# Altium integrated library Texas Instruments Power Management PWM Controller.IntLib: 1227 symbols (part 28 of 49)
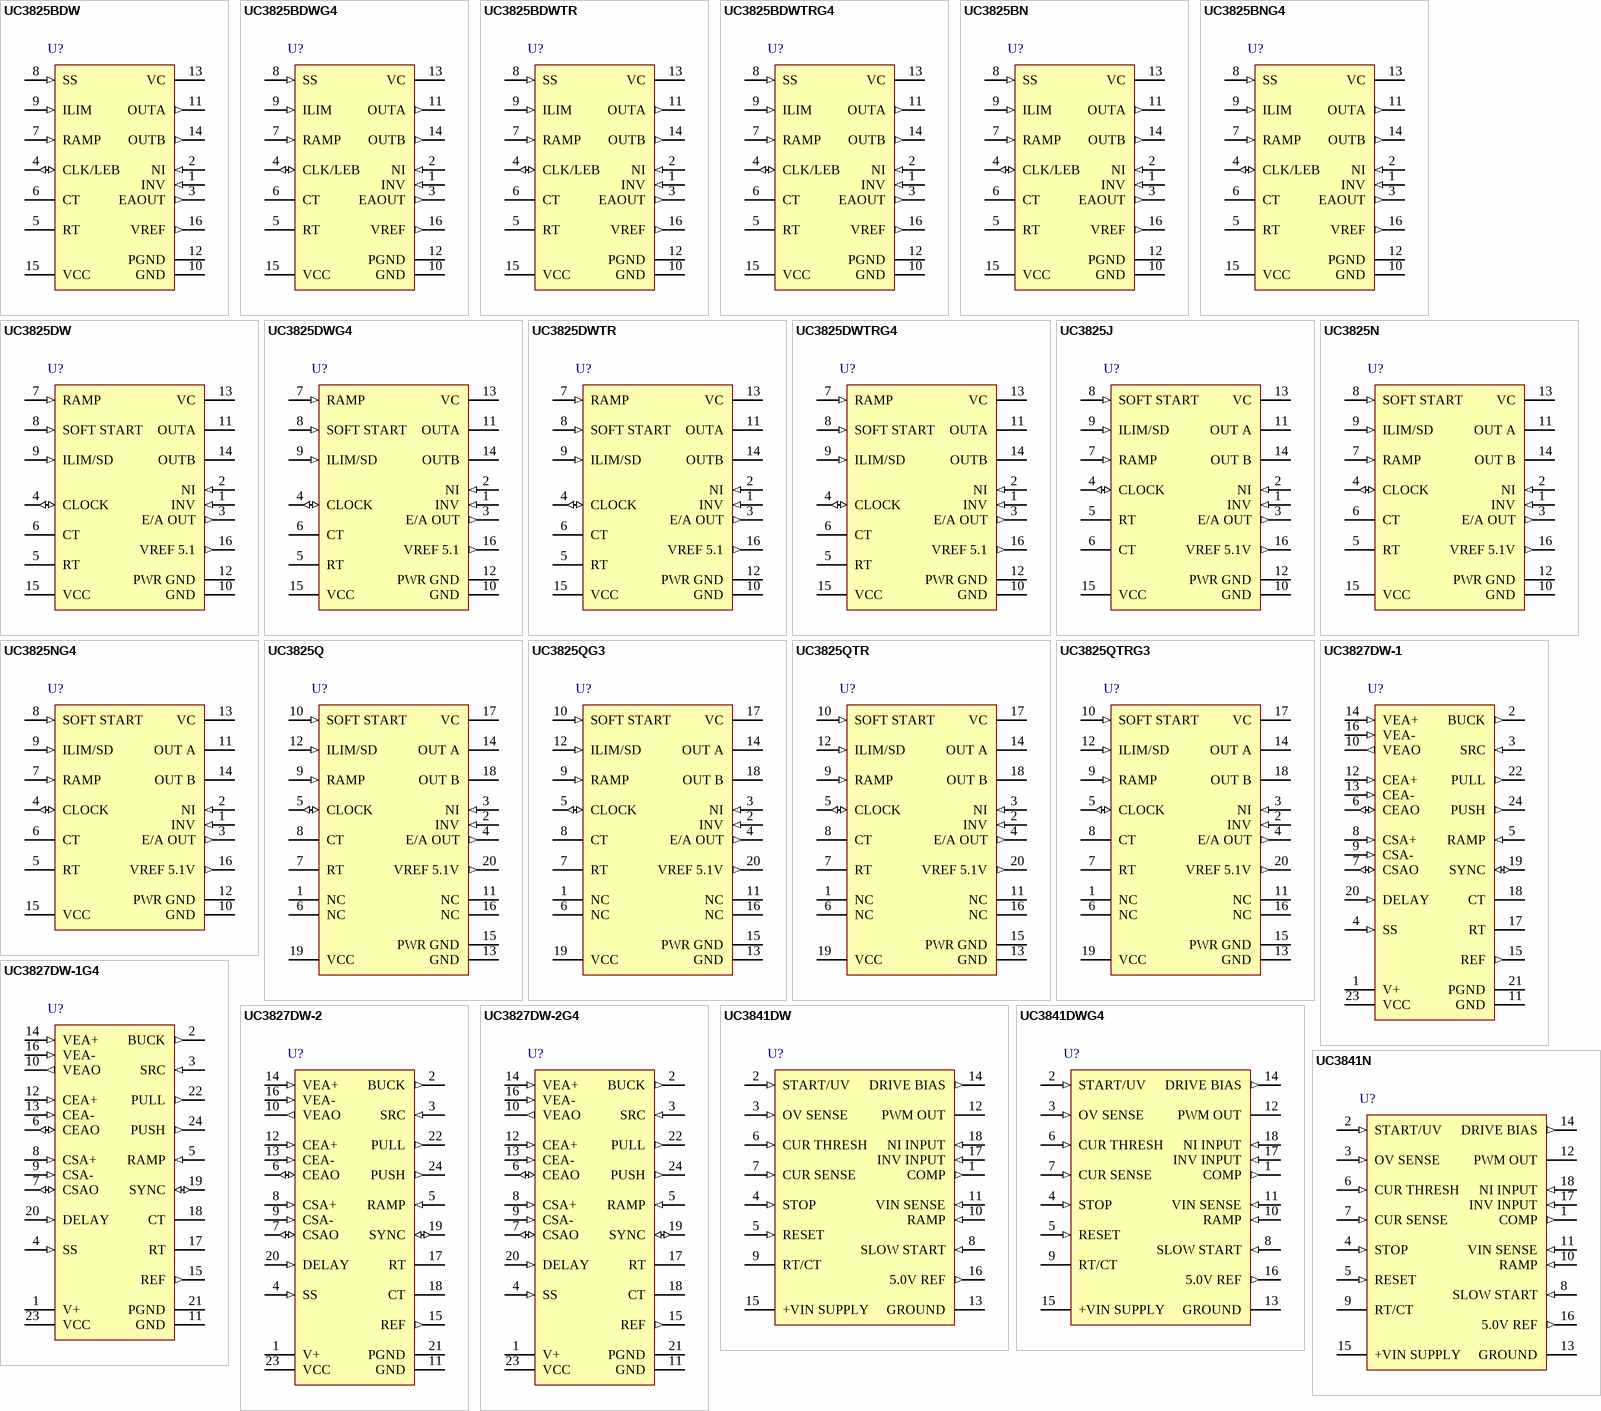
[diagram p70: symbols UC3825BDW to UC3841N]

## UC3825BDW
designator U?
High-Speed PWM Controller with Current, Voltage Control, 50 % Duty Cycle, 0 to +70 degC, 16-pin SOIC (DW), Green (RoHS & no Sb/Br); PartNumber: UC3825BDW; Manufacturer: Texas Instruments; Duty Cycle(Max)(%): 50; Frequency(Max)(kHz): 1000; Rating: Catalog; Regulated Outputs(#): 2; Topology: Boost, Buck, Flyback, Forward, Full-Bridge, Half-Bridge, Push-Pull; UVLO Thresholds On/Off(V): 9.2/8.4; DatasheetVersion: SLUS334E; PackageVersion: revG, Jan-2011; PackageReference: DW16; PackageDescription: 16-Pin Small Outline Integrated Circuit, 10.3 x 7.5 mm, Pitch 1.27 mm Pitch; Supplier 1: Digi-Key; Supplier Part Number 1: 296-2518-5-ND; Supplier 2: Farnell; Supplier Part Number 2: 1461261; Supplier 3: Newark; Supplier Part Number 3: 77C3251; Supplier 4: Mouser; Supplier Part Number 4: 595-UC3825BDW; Control Method: Current, Voltage; Eco-Plan: Green (RoHS & no Sb/Br); SubFamily: PWM Controller; Mounting Technology: Surface Mount; Code_JEDEC: MS-013-AA; ComponentLink1Description: Datasheet; ComponentLink1URL: http://www.ti.com/general/docs/lit/getliterature.tsp?genericPartNumber=UC3825B&fileType=pdf
footprint DW16_N (SOIC, 16-Leads, Body 10.3x7.5mm, Pitch 1.27mm, IPC Medium Density)
footprint DW16_L (SOIC, 16-Leads, Body 10.3x7.5mm, Pitch 1.27mm, IPC High Density)
footprint DW16_M (SOIC, 16-Leads, Body 10.3x7.5mm, Pitch 1.27mm, IPC Low Density)
pins: 1 INV (in) "Inverting input to the error amplifier", 2 NI (in) "Non-inverting input to the error amplifier", 3 EAOUT (out) "Output of the error amplifier for compensation", 4 CLK/LEB (io) "Output of the internal oscillator", 5 RT "Timing resistor connection pin for oscillator frequency programming", 6 CT "Timing capacitor connection pin for oscillator frequency programming. The timing capacitor should be connected to the device ground using minimal trace length.", 7 RAMP (in) "Non-inverting input to the PWM comparator with 1.25-V internal input offset. In voltage mode operation, this serves as the input voltage feed-forward function by using the CT ramp. In peak current mode operation, this serves (See Datasheet)", 8 SS (in) "Soft-start input pin which also doubles as the maximum duty cycle clamp.", 9 ILIM (in) "Input to the current limit comparator", 10 GND (power) "Analog ground return pin", 11 OUTA (out) "High current totem pole output A of the on-chip drive stage.", 12 PGND (power) "Ground return pin for the output driver stage", 13 VC (power) "Power supply pin for the output stage. This pin should be bypassed with a 0.1-uF monolithic ceramic low ESL capacitor with minimal trace lengths.", 14 OUTB (out) "High current totem pole output B of the on-chip drive stage.", 15 VCC (power) "Power supply pin for the device. This pin should be bypassed with a 0.1-uF monolithic ceramic low ESL capacitor with minimal trace lengths", 16 VREF (out) "5.1-V reference. For stability, the reference should be bypassed with a 0.1-uF monolithic ceramic low ESL capacitor and minimal trace length to the ground plane."

## UC3825BDWG4
designator U?
High-Speed PWM Controller with Current, Voltage Control, 50 % Duty Cycle, 0 to +70 degC, 16-pin SOIC (DW), Green (RoHS & no Sb/Br); PartNumber: UC3825BDWG4; Manufacturer: Texas Instruments; Duty Cycle(Max)(%): 50; Frequency(Max)(kHz): 1000; Rating: Catalog; Regulated Outputs(#): 2; Topology: Boost, Buck, Flyback, Forward, Full-Bridge, Half-Bridge, Push-Pull; UVLO Thresholds On/Off(V): 9.2/8.4; DatasheetVersion: SLUS334E; PackageVersion: revG, Jan-2011; PackageReference: DW16; PackageDescription: 16-Pin Small Outline Integrated Circuit, 10.3 x 7.5 mm, Pitch 1.27 mm Pitch; Supplier 1: Digi-Key; Supplier Part Number 1: UC3825BDWG4-ND; Supplier 2: Newark; Supplier Part Number 2: 70K6012; Supplier 3: Mouser; Supplier Part Number 3: 595-UC3825BDWG4; Control Method: Current, Voltage; Eco-Plan: Green (RoHS & no Sb/Br); SubFamily: PWM Controller; Mounting Technology: Surface Mount; Code_JEDEC: MS-013-AA; ComponentLink1Description: Datasheet; ComponentLink1URL: http://www.ti.com/general/docs/lit/getliterature.tsp?genericPartNumber=UC3825B&fileType=pdf
footprint DW16_N (SOIC, 16-Leads, Body 10.3x7.5mm, Pitch 1.27mm, IPC Medium Density)
footprint DW16_L (SOIC, 16-Leads, Body 10.3x7.5mm, Pitch 1.27mm, IPC High Density)
footprint DW16_M (SOIC, 16-Leads, Body 10.3x7.5mm, Pitch 1.27mm, IPC Low Density)
pins: 1 INV (in) "Inverting input to the error amplifier", 2 NI (in) "Non-inverting input to the error amplifier", 3 EAOUT (out) "Output of the error amplifier for compensation", 4 CLK/LEB (io) "Output of the internal oscillator", 5 RT "Timing resistor connection pin for oscillator frequency programming", 6 CT "Timing capacitor connection pin for oscillator frequency programming. The timing capacitor should be connected to the device ground using minimal trace length.", 7 RAMP (in) "Non-inverting input to the PWM comparator with 1.25-V internal input offset. In voltage mode operation, this serves as the input voltage feed-forward function by using the CT ramp. In peak current mode operation, this serves (See Datasheet)", 8 SS (in) "Soft-start input pin which also doubles as the maximum duty cycle clamp.", 9 ILIM (in) "Input to the current limit comparator", 10 GND (power) "Analog ground return pin", 11 OUTA (out) "High current totem pole output A of the on-chip drive stage.", 12 PGND (power) "Ground return pin for the output driver stage", 13 VC (power) "Power supply pin for the output stage. This pin should be bypassed with a 0.1-uF monolithic ceramic low ESL capacitor with minimal trace lengths.", 14 OUTB (out) "High current totem pole output B of the on-chip drive stage.", 15 VCC (power) "Power supply pin for the device. This pin should be bypassed with a 0.1-uF monolithic ceramic low ESL capacitor with minimal trace lengths", 16 VREF (out) "5.1-V reference. For stability, the reference should be bypassed with a 0.1-uF monolithic ceramic low ESL capacitor and minimal trace length to the ground plane."

## UC3825BDWTR
designator U?
High-Speed PWM Controller with Current, Voltage Control, 50 % Duty Cycle, 0 to +70 degC, 16-pin SOIC (DW), Green (RoHS & no Sb/Br); PartNumber: UC3825BDWTR; Manufacturer: Texas Instruments; Duty Cycle(Max)(%): 50; Frequency(Max)(kHz): 1000; Rating: Catalog; Regulated Outputs(#): 2; Topology: Boost, Buck, Flyback, Forward, Full-Bridge, Half-Bridge, Push-Pull; UVLO Thresholds On/Off(V): 9.2/8.4; DatasheetVersion: SLUS334E; PackageVersion: revG, Jan-2011; PackageReference: DW16; PackageDescription: 16-Pin Small Outline Integrated Circuit, 10.3 x 7.5 mm, Pitch 1.27 mm Pitch; Supplier 1: Digi-Key; Supplier Part Number 1: UC3825BDWTR-ND; Supplier 2: Newark; Supplier Part Number 2: 77C3252; Supplier 3: Mouser; Supplier Part Number 3: 595-UC3825BDWTR; Control Method: Current, Voltage; Eco-Plan: Green (RoHS & no Sb/Br); SubFamily: PWM Controller; Mounting Technology: Surface Mount; Code_JEDEC: MS-013-AA; ComponentLink1Description: Datasheet; ComponentLink1URL: http://www.ti.com/general/docs/lit/getliterature.tsp?genericPartNumber=UC3825B&fileType=pdf
footprint DW16_N (SOIC, 16-Leads, Body 10.3x7.5mm, Pitch 1.27mm, IPC Medium Density)
footprint DW16_L (SOIC, 16-Leads, Body 10.3x7.5mm, Pitch 1.27mm, IPC High Density)
footprint DW16_M (SOIC, 16-Leads, Body 10.3x7.5mm, Pitch 1.27mm, IPC Low Density)
pins: 1 INV (in) "Inverting input to the error amplifier", 2 NI (in) "Non-inverting input to the error amplifier", 3 EAOUT (out) "Output of the error amplifier for compensation", 4 CLK/LEB (io) "Output of the internal oscillator", 5 RT "Timing resistor connection pin for oscillator frequency programming", 6 CT "Timing capacitor connection pin for oscillator frequency programming. The timing capacitor should be connected to the device ground using minimal trace length.", 7 RAMP (in) "Non-inverting input to the PWM comparator with 1.25-V internal input offset. In voltage mode operation, this serves as the input voltage feed-forward function by using the CT ramp. In peak current mode operation, this serves (See Datasheet)", 8 SS (in) "Soft-start input pin which also doubles as the maximum duty cycle clamp.", 9 ILIM (in) "Input to the current limit comparator", 10 GND (power) "Analog ground return pin", 11 OUTA (out) "High current totem pole output A of the on-chip drive stage.", 12 PGND (power) "Ground return pin for the output driver stage", 13 VC (power) "Power supply pin for the output stage. This pin should be bypassed with a 0.1-uF monolithic ceramic low ESL capacitor with minimal trace lengths.", 14 OUTB (out) "High current totem pole output B of the on-chip drive stage.", 15 VCC (power) "Power supply pin for the device. This pin should be bypassed with a 0.1-uF monolithic ceramic low ESL capacitor with minimal trace lengths", 16 VREF (out) "5.1-V reference. For stability, the reference should be bypassed with a 0.1-uF monolithic ceramic low ESL capacitor and minimal trace length to the ground plane."

## UC3825BDWTRG4
designator U?
High-Speed PWM Controller with Current, Voltage Control, 50 % Duty Cycle, 0 to +70 degC, 16-pin SOIC (DW), Green (RoHS & no Sb/Br); PartNumber: UC3825BDWTRG4; Manufacturer: Texas Instruments; Duty Cycle(Max)(%): 50; Frequency(Max)(kHz): 1000; Rating: Catalog; Regulated Outputs(#): 2; Topology: Boost, Buck, Flyback, Forward, Full-Bridge, Half-Bridge, Push-Pull; UVLO Thresholds On/Off(V): 9.2/8.4; DatasheetVersion: SLUS334E; PackageVersion: revG, Jan-2011; PackageReference: DW16; PackageDescription: 16-Pin Small Outline Integrated Circuit, 10.3 x 7.5 mm, Pitch 1.27 mm Pitch; Supplier 1: Digi-Key; Supplier Part Number 1: UC3825BDWTRG4-ND; Supplier 2: Newark; Supplier Part Number 2: 63K6734; Supplier 3: Mouser; Supplier Part Number 3: 595-UC3825BDWTRG4; Control Method: Current, Voltage; Eco-Plan: Green (RoHS & no Sb/Br); SubFamily: PWM Controller; Mounting Technology: Surface Mount; Code_JEDEC: MS-013-AA; ComponentLink1Description: Datasheet; ComponentLink1URL: http://www.ti.com/general/docs/lit/getliterature.tsp?genericPartNumber=UC3825B&fileType=pdf
footprint DW16_N (SOIC, 16-Leads, Body 10.3x7.5mm, Pitch 1.27mm, IPC Medium Density)
footprint DW16_L (SOIC, 16-Leads, Body 10.3x7.5mm, Pitch 1.27mm, IPC High Density)
footprint DW16_M (SOIC, 16-Leads, Body 10.3x7.5mm, Pitch 1.27mm, IPC Low Density)
pins: 1 INV (in) "Inverting input to the error amplifier", 2 NI (in) "Non-inverting input to the error amplifier", 3 EAOUT (out) "Output of the error amplifier for compensation", 4 CLK/LEB (io) "Output of the internal oscillator", 5 RT "Timing resistor connection pin for oscillator frequency programming", 6 CT "Timing capacitor connection pin for oscillator frequency programming. The timing capacitor should be connected to the device ground using minimal trace length.", 7 RAMP (in) "Non-inverting input to the PWM comparator with 1.25-V internal input offset. In voltage mode operation, this serves as the input voltage feed-forward function by using the CT ramp. In peak current mode operation, this serves (See Datasheet)", 8 SS (in) "Soft-start input pin which also doubles as the maximum duty cycle clamp.", 9 ILIM (in) "Input to the current limit comparator", 10 GND (power) "Analog ground return pin", 11 OUTA (out) "High current totem pole output A of the on-chip drive stage.", 12 PGND (power) "Ground return pin for the output driver stage", 13 VC (power) "Power supply pin for the output stage. This pin should be bypassed with a 0.1-uF monolithic ceramic low ESL capacitor with minimal trace lengths.", 14 OUTB (out) "High current totem pole output B of the on-chip drive stage.", 15 VCC (power) "Power supply pin for the device. This pin should be bypassed with a 0.1-uF monolithic ceramic low ESL capacitor with minimal trace lengths", 16 VREF (out) "5.1-V reference. For stability, the reference should be bypassed with a 0.1-uF monolithic ceramic low ESL capacitor and minimal trace length to the ground plane."

## UC3825BN
designator U?
High-Speed PWM Controller with Current, Voltage Control, 50 % Duty Cycle, 0 to +70 degC, 16-pin PDIP (N), Green (RoHS & no Sb/Br); PartNumber: UC3825BN; Manufacturer: Texas Instruments; Duty Cycle(Max)(%): 50; Frequency(Max)(kHz): 1000; Rating: Catalog; Regulated Outputs(#): 2; Topology: Boost, Buck, Flyback, Forward, Full-Bridge, Half-Bridge, Push-Pull; UVLO Thresholds On/Off(V): 9.2/8.4; DatasheetVersion: SLUS334E; PackageVersion: revE, Dec-2002; PackageReference: N16; PackageDescription: 16-Pin Plastic Dual-In-Line Package, Row Spacing 7.62 mm, Pitch 2.54 mm; Supplier 1: Digi-Key; Supplier Part Number 1: 296-11269-5-ND; Supplier 2: Newark; Supplier Part Number 2: 77C3253; Supplier 3: Mouser; Supplier Part Number 3: 595-UC3825BN; Control Method: Current, Voltage; Eco-Plan: Green (RoHS & no Sb/Br); SubFamily: PWM Controller; Mounting Technology: Through Hole; Code_JEDEC: MS-001*; ComponentLink1Description: Datasheet; ComponentLink1URL: http://www.ti.com/general/docs/lit/getliterature.tsp?genericPartNumber=UC3825B&fileType=pdf
footprint N16 (DIP, 16-Leads, Row Spacing 7.62mm, Pitch 2.54mm, Body 19.3x6.4mm)
pins: 1 INV (in) "Inverting input to the error amplifier", 2 NI (in) "Non-inverting input to the error amplifier", 3 EAOUT (out) "Output of the error amplifier for compensation", 4 CLK/LEB (io) "Output of the internal oscillator", 5 RT "Timing resistor connection pin for oscillator frequency programming", 6 CT "Timing capacitor connection pin for oscillator frequency programming. The timing capacitor should be connected to the device ground using minimal trace length.", 7 RAMP (in) "Non-inverting input to the PWM comparator with 1.25-V internal input offset. In voltage mode operation, this serves as the input voltage feed-forward function by using the CT ramp. In peak current mode operation, this serves (See Datasheet)", 8 SS (in) "Soft-start input pin which also doubles as the maximum duty cycle clamp.", 9 ILIM (in) "Input to the current limit comparator", 10 GND (power) "Analog ground return pin", 11 OUTA (out) "High current totem pole output A of the on-chip drive stage.", 12 PGND (power) "Ground return pin for the output driver stage", 13 VC (power) "Power supply pin for the output stage. This pin should be bypassed with a 0.1-uF monolithic ceramic low ESL capacitor with minimal trace lengths.", 14 OUTB (out) "High current totem pole output B of the on-chip drive stage.", 15 VCC (power) "Power supply pin for the device. This pin should be bypassed with a 0.1-uF monolithic ceramic low ESL capacitor with minimal trace lengths", 16 VREF (out) "5.1-V reference. For stability, the reference should be bypassed with a 0.1-uF monolithic ceramic low ESL capacitor and minimal trace length to the ground plane."

## UC3825BNG4
designator U?
High-Speed PWM Controller with Current, Voltage Control, 50 % Duty Cycle, 0 to +70 degC, 16-pin PDIP (N), Green (RoHS & no Sb/Br); PartNumber: UC3825BNG4; Manufacturer: Texas Instruments; Duty Cycle(Max)(%): 50; Frequency(Max)(kHz): 1000; Rating: Catalog; Regulated Outputs(#): 2; Topology: Boost, Buck, Flyback, Forward, Full-Bridge, Half-Bridge, Push-Pull; UVLO Thresholds On/Off(V): 9.2/8.4; DatasheetVersion: SLUS334E; PackageVersion: revE, Dec-2002; PackageReference: N16; PackageDescription: 16-Pin Plastic Dual-In-Line Package, Row Spacing 7.62 mm, Pitch 2.54 mm; Supplier 1: Digi-Key; Supplier Part Number 1: UC3825BNG4-ND; Supplier 2: Newark; Supplier Part Number 2: 85K1825; Supplier 3: Mouser; Supplier Part Number 3: 595-UC3825BNG4; Control Method: Current,Voltage; Eco-Plan: Green (RoHS & no Sb/Br); SubFamily: PWM Controller; Mounting Technology: Through Hole; Code_JEDEC: MS-001*; ComponentLink1Description: Datasheet; ComponentLink1URL: http://www.ti.com/general/docs/lit/getliterature.tsp?genericPartNumber=UC3825B&fileType=pdf
footprint N16 (DIP, 16-Leads, Row Spacing 7.62mm, Pitch 2.54mm, Body 19.3x6.4mm)
pins: 1 INV (in) "Inverting input to the error amplifier", 2 NI (in) "Non-inverting input to the error amplifier", 3 EAOUT (out) "Output of the error amplifier for compensation", 4 CLK/LEB (io) "Output of the internal oscillator", 5 RT "Timing resistor connection pin for oscillator frequency programming", 6 CT "Timing capacitor connection pin for oscillator frequency programming. The timing capacitor should be connected to the device ground using minimal trace length.", 7 RAMP (in) "Non-inverting input to the PWM comparator with 1.25-V internal input offset. In voltage mode operation, this serves as the input voltage feed-forward function by using the CT ramp. In peak current mode operation, this serves (See Datasheet)", 8 SS (in) "Soft-start input pin which also doubles as the maximum duty cycle clamp.", 9 ILIM (in) "Input to the current limit comparator", 10 GND (power) "Analog ground return pin", 11 OUTA (out) "High current totem pole output A of the on-chip drive stage.", 12 PGND (power) "Ground return pin for the output driver stage", 13 VC (power) "Power supply pin for the output stage. This pin should be bypassed with a 0.1-uF monolithic ceramic low ESL capacitor with minimal trace lengths.", 14 OUTB (out) "High current totem pole output B of the on-chip drive stage.", 15 VCC (power) "Power supply pin for the device. This pin should be bypassed with a 0.1-uF monolithic ceramic low ESL capacitor with minimal trace lengths", 16 VREF (out) "5.1-V reference. For stability, the reference should be bypassed with a 0.1-uF monolithic ceramic low ESL capacitor and minimal trace length to the ground plane."

## UC3825DW
designator U?
High Speed PWM Controller with Current, Voltage Control, 50 % Duty Cycle, 0 to +70 degC, 16-pin SOIC (DW), Green (RoHS & no Sb/Br); PartNumber: UC3825DW; Manufacturer: Texas Instruments; Duty Cycle(Max)(%): 50; Frequency(Max)(kHz): 1000; Rating: Catalog; Regulated Outputs(#): 2; Topology: Boost, Buck, Flyback, Forward, Full-Bridge, Half-Bridge, Push-Pull; UVLO Thresholds On/Off(V): 9.2/8.4; DatasheetVersion: SLUS235A; PackageVersion: revG, Jan-2011; PackageReference: DW16; PackageDescription: 16-Pin Small Outline Integrated Circuit, 10.3 x 7.5 mm, Pitch 1.27 mm Pitch; Supplier 1: Digi-Key; Supplier Part Number 1: 296-11270-5-ND; Supplier 2: Farnell; Supplier Part Number 2: 1336279; Supplier 3: Newark; Supplier Part Number 3: 74K4010; Supplier 4: Mouser; Supplier Part Number 4: 595-UC3825DW; Control Method: Current, Voltage; Eco-Plan: Green (RoHS & no Sb/Br); SubFamily: PWM Controller; Mounting Technology: Surface Mount; Code_JEDEC: MS-013-AA; ComponentLink1Description: Datasheet; ComponentLink1URL: http://www.ti.com/general/docs/lit/getliterature.tsp?genericPartNumber=UC3825&fileType=pdf
footprint DW16_N (SOIC, 16-Leads, Body 10.3x7.5mm, Pitch 1.27mm, IPC Medium Density)
footprint DW16_L (SOIC, 16-Leads, Body 10.3x7.5mm, Pitch 1.27mm, IPC High Density)
footprint DW16_M (SOIC, 16-Leads, Body 10.3x7.5mm, Pitch 1.27mm, IPC Low Density)
pins: 1 INV (in), 2 NI (in), 3 E/A OUT (out), 4 CLOCK (io), 5 RT, 6 CT, 7 RAMP (in), 8 SOFT START (in), 9 ILIM/SD (in), 10 GND (power), 11 OUTA (hiz), 12 PWR GND (power), 13 VC (power), 14 OUTB (hiz), 15 VCC (power), 16 VREF 5.1 (out)

## UC3825DWG4
designator U?
High Speed PWM Controller with Current, Voltage Control, 50 % Duty Cycle, 0 to +70 degC, 16-pin SOIC (DW), Green (RoHS & no Sb/Br); PartNumber: UC3825DWG4; Manufacturer: Texas Instruments; Duty Cycle(Max)(%): 50; Frequency(Max)(kHz): 1000; Rating: Catalog; Regulated Outputs(#): 2; Topology: Boost, Buck, Flyback, Forward, Full-Bridge, Half-Bridge, Push-Pull; UVLO Thresholds On/Off(V): 9.2/8.4; DatasheetVersion: SLUS235A; PackageVersion: revG, Jan-2011; PackageReference: DW16; PackageDescription: 16-Pin Small Outline Integrated Circuit, 10.3 x 7.5 mm, Pitch 1.27 mm Pitch; Supplier 1: Digi-Key; Supplier Part Number 1: UC3825DWG4-ND; Supplier 2: Farnell; Supplier Part Number 2: 1207387; Supplier 3: Newark; Supplier Part Number 3: 62M0959; Supplier 4: Newark; Supplier Part Number 4: 63K6735; Supplier 5: Mouser; Supplier Part Number 5: 595-UC3825DWG4; Control Method: Current, Voltage; Eco-Plan: Green (RoHS & no Sb/Br); SubFamily: PWM Controller; Mounting Technology: Surface Mount; Code_JEDEC: MS-013-AA; ComponentLink1Description: Datasheet; ComponentLink1URL: http://www.ti.com/general/docs/lit/getliterature.tsp?genericPartNumber=UC3825&fileType=pdf
footprint DW16_N (SOIC, 16-Leads, Body 10.3x7.5mm, Pitch 1.27mm, IPC Medium Density)
footprint DW16_L (SOIC, 16-Leads, Body 10.3x7.5mm, Pitch 1.27mm, IPC High Density)
footprint DW16_M (SOIC, 16-Leads, Body 10.3x7.5mm, Pitch 1.27mm, IPC Low Density)
pins: 1 INV (in), 2 NI (in), 3 E/A OUT (out), 4 CLOCK (io), 5 RT, 6 CT, 7 RAMP (in), 8 SOFT START (in), 9 ILIM/SD (in), 10 GND (power), 11 OUTA (hiz), 12 PWR GND (power), 13 VC (power), 14 OUTB (hiz), 15 VCC (power), 16 VREF 5.1 (out)

## UC3825DWTR
designator U?
High Speed PWM Controller with Current, Voltage Control, 50 % Duty Cycle, 0 to +70 degC, 16-pin SOIC (DW), Green (RoHS & no Sb/Br); PartNumber: UC3825DWTR; Manufacturer: Texas Instruments; Duty Cycle(Max)(%): 50; Frequency(Max)(kHz): 1000; Rating: Catalog; Regulated Outputs(#): 2; Topology: Boost, Buck, Flyback, Forward, Full-Bridge, Half-Bridge, Push-Pull; UVLO Thresholds On/Off(V): 9.2/8.4; DatasheetVersion: SLUS235A; PackageVersion: revG, Jan-2011; PackageReference: DW16; PackageDescription: 16-Pin Small Outline Integrated Circuit, 10.3 x 7.5 mm, Pitch 1.27 mm Pitch; Supplier 1: Digi-Key; Supplier Part Number 1: UC3825DWTR-ND; Supplier 2: Newark; Supplier Part Number 2: 77C3257; Supplier 3: Mouser; Supplier Part Number 3: 595-UC3825DWTR; Control Method: Current, Voltage; Eco-Plan: Green (RoHS & no Sb/Br); SubFamily: PWM Controller; Mounting Technology: Surface Mount; Code_JEDEC: MS-013-AA; ComponentLink1Description: Datasheet; ComponentLink1URL: http://www.ti.com/general/docs/lit/getliterature.tsp?genericPartNumber=UC3825&fileType=pdf
footprint DW16_N (SOIC, 16-Leads, Body 10.3x7.5mm, Pitch 1.27mm, IPC Medium Density)
footprint DW16_L (SOIC, 16-Leads, Body 10.3x7.5mm, Pitch 1.27mm, IPC High Density)
footprint DW16_M (SOIC, 16-Leads, Body 10.3x7.5mm, Pitch 1.27mm, IPC Low Density)
pins: 1 INV (in), 2 NI (in), 3 E/A OUT (out), 4 CLOCK (io), 5 RT, 6 CT, 7 RAMP (in), 8 SOFT START (in), 9 ILIM/SD (in), 10 GND (power), 11 OUTA (hiz), 12 PWR GND (power), 13 VC (power), 14 OUTB (hiz), 15 VCC (power), 16 VREF 5.1 (out)

## UC3825DWTRG4
designator U?
High Speed PWM Controller with Current, Voltage Control, 50 % Duty Cycle, 0 to +70 degC, 16-pin SOIC (DW), Green (RoHS & no Sb/Br); PartNumber: UC3825DWTRG4; Manufacturer: Texas Instruments; Duty Cycle(Max)(%): 50; Frequency(Max)(kHz): 1000; Rating: Catalog; Regulated Outputs(#): 2; Topology: Boost, Buck, Flyback, Forward, Full-Bridge, Half-Bridge, Push-Pull; UVLO Thresholds On/Off(V): 9.2/8.4; DatasheetVersion: SLUS235A; PackageVersion: revG, Jan-2011; PackageReference: DW16; PackageDescription: 16-Pin Small Outline Integrated Circuit, 10.3 x 7.5 mm, Pitch 1.27 mm Pitch; Supplier 1: Digi-Key; Supplier Part Number 1: UC3825DWTRG4-ND; Supplier 2: Newark; Supplier Part Number 2: 65J6990; Supplier 3: Mouser; Supplier Part Number 3: 595-UC3825DWTRG4; Control Method: Current, Voltage; Eco-Plan: Green (RoHS & no Sb/Br); SubFamily: PWM Controller; Mounting Technology: Surface Mount; Code_JEDEC: MS-013-AA; ComponentLink1Description: Datasheet; ComponentLink1URL: http://www.ti.com/general/docs/lit/getliterature.tsp?genericPartNumber=UC3825&fileType=pdf
footprint DW16_N (SOIC, 16-Leads, Body 10.3x7.5mm, Pitch 1.27mm, IPC Medium Density)
footprint DW16_L (SOIC, 16-Leads, Body 10.3x7.5mm, Pitch 1.27mm, IPC High Density)
footprint DW16_M (SOIC, 16-Leads, Body 10.3x7.5mm, Pitch 1.27mm, IPC Low Density)
pins: 1 INV (in), 2 NI (in), 3 E/A OUT (out), 4 CLOCK (io), 5 RT, 6 CT, 7 RAMP (in), 8 SOFT START (in), 9 ILIM/SD (in), 10 GND (power), 11 OUTA (hiz), 12 PWR GND (power), 13 VC (power), 14 OUTB (hiz), 15 VCC (power), 16 VREF 5.1 (out)

## UC3825J
designator U?
High Speed PWM Controller with Current, Voltage Control, 50 % Duty Cycle, 0 to +70 degC, 16-pin CDIP (J); PartNumber: UC3825J; Manufacturer: Texas Instruments; Duty Cycle(Max)(%): 50; Eco-Plan: TBD; Frequency(Max)(kHz): 1000; Rating: Military; Regulated Outputs(#): 2; Topology: Boost, Buck, Flyback, Forward, Full-Bridge, Half-Bridge, Push-Pull; UVLO Thresholds On/Off(V): 9.2/8.4; DatasheetVersion: SLUS235A; PackageVersion: revF, Mar-2003; PackageReference: J16; PackageDescription: 16-Pin, Ceramic Dual In-Line Package, Row Spacing 7.62 mm, Pitch 2.54 mm; Control Method: Current,Voltage; SubFamily: PWM Controller; Mounting Technology: Through Hole; ComponentLink1Description: Datasheet; ComponentLink1URL: http://www.ti.com/general/docs/lit/getliterature.tsp?genericPartNumber=UC3825M&fileType=pdf
footprint J16 (DIP, 16-Leads, Row Spacing 7.62mm, Pitch 2.54mm, Body 21.3x6.9mm)
pins: 1 INV (in), 2 NI (in), 3 E/A OUT (out), 4 CLOCK (io), 5 RT, 6 CT, 7 RAMP (in), 8 SOFT START (in), 9 ILIM/SD (in), 10 GND (power), 11 OUT A (hiz), 12 PWR GND (power), 13 VC (power), 14 OUT B (hiz), 15 VCC (power), 16 VREF 5.1V (out)

## UC3825N
designator U?
High Speed PWM Controller with Current, Voltage Control, 50 % Duty Cycle, 0 to +70 degC, 16-pin PDIP (N), Green (RoHS & no Sb/Br); PartNumber: UC3825N; Manufacturer: Texas Instruments; Duty Cycle(Max)(%): 50; Frequency(Max)(kHz): 1000; Rating: Catalog; Regulated Outputs(#): 2; Topology: Boost, Buck, Flyback, Forward, Full-Bridge, Half-Bridge, Push-Pull; UVLO Thresholds On/Off(V): 9.2/8.4; DatasheetVersion: SLUS235A; PackageVersion: revE, Dec-2002; PackageReference: N16; PackageDescription: 16-Pin Plastic Dual-In-Line Package, Row Spacing 7.62 mm, Pitch 2.54 mm; Supplier 1: Digi-Key; Supplier Part Number 1: 296-11271-5-ND; Supplier 2: Farnell; Supplier Part Number 2: 1101415; Supplier 3: Newark; Supplier Part Number 3: 68K1141; Supplier 4: Mouser; Supplier Part Number 4: 595-UC3825N; Control Method: Current, Voltage; Eco-Plan: Green (RoHS & no Sb/Br); SubFamily: PWM Controller; Mounting Technology: Through Hole; Code_JEDEC: MS-001*; ComponentLink1Description: Datasheet; ComponentLink1URL: http://www.ti.com/general/docs/lit/getliterature.tsp?genericPartNumber=UC3825&fileType=pdf
footprint N16 (DIP, 16-Leads, Row Spacing 7.62mm, Pitch 2.54mm, Body 19.3x6.4mm)
pins: 1 INV (in), 2 NI (in), 3 E/A OUT (out), 4 CLOCK (io), 5 RT, 6 CT, 7 RAMP (in), 8 SOFT START (in), 9 ILIM/SD (in), 10 GND (power), 11 OUT A (hiz), 12 PWR GND (power), 13 VC (power), 14 OUT B (hiz), 15 VCC (power), 16 VREF 5.1V (out)

## UC3825NG4
designator U?
High Speed PWM Controller with Current, Voltage Control, 50 % Duty Cycle, 0 to +70 degC, 16-pin PDIP (N), Green (RoHS & no Sb/Br); PartNumber: UC3825NG4; Manufacturer: Texas Instruments; Duty Cycle(Max)(%): 50; Frequency(Max)(kHz): 1000; Rating: Catalog; Regulated Outputs(#): 2; Topology: Boost, Buck, Flyback, Forward, Full-Bridge, Half-Bridge, Push-Pull; UVLO Thresholds On/Off(V): 9.2/8.4; DatasheetVersion: SLUS235A; PackageVersion: revE, Dec-2002; PackageReference: N16; PackageDescription: 16-Pin Plastic Dual-In-Line Package, Row Spacing 7.62 mm, Pitch 2.54 mm; Supplier 1: Digi-Key; Supplier Part Number 1: UC3825NG4-ND; Supplier 2: Newark; Supplier Part Number 2: 66K4921; Supplier 3: Mouser; Supplier Part Number 3: 595-UC3825NG4; Control Method: Current, Voltage; Eco-Plan: Green (RoHS & no Sb/Br); SubFamily: PWM Controller; Mounting Technology: Through Hole; Code_JEDEC: MS-001*; ComponentLink1Description: Datasheet; ComponentLink1URL: http://www.ti.com/general/docs/lit/getliterature.tsp?genericPartNumber=UC3825&fileType=pdf
footprint N16 (DIP, 16-Leads, Row Spacing 7.62mm, Pitch 2.54mm, Body 19.3x6.4mm)
pins: 1 INV (in), 2 NI (in), 3 E/A OUT (out), 4 CLOCK (io), 5 RT, 6 CT, 7 RAMP (in), 8 SOFT START (in), 9 ILIM/SD (in), 10 GND (power), 11 OUT A (hiz), 12 PWR GND (power), 13 VC (power), 14 OUT B (hiz), 15 VCC (power), 16 VREF 5.1V (out)

## UC3825Q
designator U?
High Speed PWM Controller with Current, Voltage Control, 50 % Duty Cycle, 0 to +70 degC, 20-pin PLCC (FN), Green (RoHS & no Sb/Br); PartNumber: UC3825Q; Manufacturer: Texas Instruments; Duty Cycle(Max)(%): 50; Frequency(Max)(kHz): 1000; Rating: Catalog; Regulated Outputs(#): 2; Topology: Boost, Buck, Flyback, Forward, Full-Bridge, Half-Bridge, Push-Pull; UVLO Thresholds On/Off(V): 9.2/8.4; DatasheetVersion: SLUS235A; PackageVersion: revB, Mar-1995; PackageReference: FN20; PackageDescription: 20-Pin Plastic Leaded Chip Carrier, 1.27 mm Pitch; Supplier 1: Digi-Key; Supplier Part Number 1: 296-34736-5-ND; Supplier 2: Newark; Supplier Part Number 2: 77C3258; Supplier 3: Mouser; Supplier Part Number 3: 595-UC3825Q; Control Method: Current, Voltage; Eco-Plan: Green (RoHS & no Sb/Br); SubFamily: PWM Controller; Mounting Technology: Surface Mount; Code_JEDEC: MS-018; ComponentLink1Description: Datasheet; ComponentLink1URL: http://www.ti.com/general/docs/lit/getliterature.tsp?genericPartNumber=UC3825&fileType=pdf
footprint FN20_N (Leaded Chip Carrier, 20-Leads, Body 9x9mm, Pitch 1.27mm, IPC Medium Density)
footprint FN20_L (Leaded Chip Carrier, 20-Leads, Body 9x9mm, Pitch 1.27mm, IPC High Density)
footprint FN20_M (Leaded Chip Carrier, 20-Leads, Body 9x9mm, Pitch 1.27mm, IPC Low Density)
pins: 1 NC, 2 INV (in), 3 NI (in), 4 E/A OUT (out), 5 CLOCK (io), 6 NC, 7 RT, 8 CT, 9 RAMP (in), 10 SOFT START (in), 11 NC, 12 ILIM/SD (in), 13 GND (power), 14 OUT A (hiz), 15 PWR GND (power), 16 NC, 17 VC (power), 18 OUT B (hiz), 19 VCC (power), 20 VREF 5.1V (out)

## UC3825QG3
designator U?
High Speed PWM Controller with Current, Voltage Control, 50 % Duty Cycle, 0 to +70 degC, 20-pin PLCC (FN), Green (RoHS & no Sb/Br); PartNumber: UC3825QG3; Manufacturer: Texas Instruments; Duty Cycle(Max)(%): 50; Frequency(Max)(kHz): 1000; Rating: Catalog; Regulated Outputs(#): 2; Topology: Boost, Buck, Flyback, Forward, Full-Bridge, Half-Bridge, Push-Pull; UVLO Thresholds On/Off(V): 9.2/8.4; DatasheetVersion: SLUS235A; PackageVersion: revB, Mar-1995; PackageReference: FN20; PackageDescription: 20-Pin Plastic Leaded Chip Carrier, 1.27 mm Pitch; Supplier 1: Digi-Key; Supplier Part Number 1: UC3825QG3-ND; Supplier 2: Newark; Supplier Part Number 2: 14M4024; Supplier 3: Mouser; Supplier Part Number 3: 595-UC3825QG3; Control Method: Current, Voltage; Eco-Plan: Green (RoHS & no Sb/Br); SubFamily: PWM Controller; Mounting Technology: Surface Mount; Code_JEDEC: MS-018; ComponentLink1Description: Datasheet; ComponentLink1URL: http://www.ti.com/general/docs/lit/getliterature.tsp?genericPartNumber=UC3825&fileType=pdf
footprint FN20_N (Leaded Chip Carrier, 20-Leads, Body 9x9mm, Pitch 1.27mm, IPC Medium Density)
footprint FN20_L (Leaded Chip Carrier, 20-Leads, Body 9x9mm, Pitch 1.27mm, IPC High Density)
footprint FN20_M (Leaded Chip Carrier, 20-Leads, Body 9x9mm, Pitch 1.27mm, IPC Low Density)
pins: 1 NC, 2 INV (in), 3 NI (in), 4 E/A OUT (out), 5 CLOCK (io), 6 NC, 7 RT, 8 CT, 9 RAMP (in), 10 SOFT START (in), 11 NC, 12 ILIM/SD (in), 13 GND (power), 14 OUT A (hiz), 15 PWR GND (power), 16 NC, 17 VC (power), 18 OUT B (hiz), 19 VCC (power), 20 VREF 5.1V (out)

## UC3825QTR
designator U?
High Speed PWM Controller with Current, Voltage Control, 50 % Duty Cycle, 0 to +70 degC, 20-pin PLCC (FN), Green (RoHS & no Sb/Br); PartNumber: UC3825QTR; Manufacturer: Texas Instruments; Duty Cycle(Max)(%): 50; Frequency(Max)(kHz): 1000; Rating: Catalog; Regulated Outputs(#): 2; Topology: Boost, Buck, Flyback, Forward, Full-Bridge, Half-Bridge, Push-Pull; UVLO Thresholds On/Off(V): 9.2/8.4; DatasheetVersion: SLUS235A; PackageVersion: revB, Mar-1995; PackageReference: FN20; PackageDescription: 20-Pin Plastic Leaded Chip Carrier, 1.27 mm Pitch; Supplier 1: Digi-Key; Supplier Part Number 1: UC3825QTR-ND; Supplier 2: Newark; Supplier Part Number 2: 77C3260; Supplier 3: Mouser; Supplier Part Number 3: 595-UC3825QTR; Control Method: Current, Voltage; Eco-Plan: Green (RoHS & no Sb/Br); SubFamily: PWM Controller; Mounting Technology: Surface Mount; Code_JEDEC: MS-018; ComponentLink1Description: Datasheet; ComponentLink1URL: http://www.ti.com/general/docs/lit/getliterature.tsp?genericPartNumber=UC3825&fileType=pdf
footprint FN20_N (Leaded Chip Carrier, 20-Leads, Body 9x9mm, Pitch 1.27mm, IPC Medium Density)
footprint FN20_L (Leaded Chip Carrier, 20-Leads, Body 9x9mm, Pitch 1.27mm, IPC High Density)
footprint FN20_M (Leaded Chip Carrier, 20-Leads, Body 9x9mm, Pitch 1.27mm, IPC Low Density)
pins: 1 NC, 2 INV (in), 3 NI (in), 4 E/A OUT (out), 5 CLOCK (io), 6 NC, 7 RT, 8 CT, 9 RAMP (in), 10 SOFT START (in), 11 NC, 12 ILIM/SD (in), 13 GND (power), 14 OUT A (hiz), 15 PWR GND (power), 16 NC, 17 VC (power), 18 OUT B (hiz), 19 VCC (power), 20 VREF 5.1V (out)

## UC3825QTRG3
designator U?
High Speed PWM Controller with Current, Voltage Control, 50 % Duty Cycle, 0 to +70 degC, 20-pin PLCC (FN), Green (RoHS & no Sb/Br); PartNumber: UC3825QTRG3; Manufacturer: Texas Instruments; Duty Cycle(Max)(%): 50; Frequency(Max)(kHz): 1000; Rating: Catalog; Regulated Outputs(#): 2; Topology: Boost, Buck, Flyback, Forward, Full-Bridge, Half-Bridge, Push-Pull; UVLO Thresholds On/Off(V): 9.2/8.4; DatasheetVersion: SLUS235A; PackageVersion: revB, Mar-1995; PackageReference: FN20; PackageDescription: 20-Pin Plastic Leaded Chip Carrier, 1.27 mm Pitch; Supplier 1: Digi-Key; Supplier Part Number 1: UC3825QTRG3-ND; Supplier 2: Newark; Supplier Part Number 2: 73K9706; Supplier 3: Mouser; Supplier Part Number 3: 595-UC3825QTRG3; Control Method: Current,Voltage; Eco-Plan: Green (RoHS & no Sb/Br); SubFamily: PWM Controller; Mounting Technology: Surface Mount; Code_JEDEC: MS-018; ComponentLink1Description: Datasheet; ComponentLink1URL: http://www.ti.com/general/docs/lit/getliterature.tsp?genericPartNumber=UC3825&fileType=pdf
footprint FN20_N (Leaded Chip Carrier, 20-Leads, Body 9x9mm, Pitch 1.27mm, IPC Medium Density)
footprint FN20_L (Leaded Chip Carrier, 20-Leads, Body 9x9mm, Pitch 1.27mm, IPC High Density)
footprint FN20_M (Leaded Chip Carrier, 20-Leads, Body 9x9mm, Pitch 1.27mm, IPC Low Density)
pins: 1 NC, 2 INV (in), 3 NI (in), 4 E/A OUT (out), 5 CLOCK (io), 6 NC, 7 RT, 8 CT, 9 RAMP (in), 10 SOFT START (in), 11 NC, 12 ILIM/SD (in), 13 GND (power), 14 OUT A (hiz), 15 PWR GND (power), 16 NC, 17 VC (power), 18 OUT B (hiz), 19 VCC (power), 20 VREF 5.1V (out)

## UC3827DW-1
designator U?
Buck Current / Voltage Fed Push - Pull PWM Controller with Current Control, 50 % Duty Cycle, 0 to +70 degC, 24-pin SOIC (DW), Green (RoHS & no Sb/Br); PartNumber: UC3827DW-1; Manufacturer: Texas Instruments; Duty Cycle(Max)(%): 50; Frequency(Max)(kHz): 450; Rating: Catalog; Regulated Outputs(#): 3; Topology: Buck, Full-Bridge, Push-Pull; DatasheetVersion: SLUS365D; PackageVersion: revG, Jan-2011; PackageReference: DW24; PackageDescription: 24-Pin Plastic Small Outline Integrated Circuit, 15.4 x 7.5 mm, Pitch 1.27 mm Pitch; Supplier 1: Digi-Key; Supplier Part Number 1: 296-2519-5-ND; Supplier 2: Newark; Supplier Part Number 2: 77C3261; Supplier 3: Mouser; Supplier Part Number 3: 595-UC3827DW-1; Control Method: Current; Eco-Plan: Green (RoHS & no Sb/Br); SubFamily: PWM Controller; UVLO Thresholds On/Off(V): 9/8.4; Mounting Technology: Surface Mount; Code_JEDEC: MS-013AD; ComponentLink1Description: Datasheet; ComponentLink1URL: http://www.ti.com/general/docs/lit/getliterature.tsp?genericPartNumber=UC3827-1&fileType=pdf
footprint DW24_N (SOIC, 24-Leads, Body 15.4x7.5mm, Pitch 1.27mm, IPC Medium Density)
footprint DW24_L (SOIC, 24-Leads, Body 15.4x7.5mm, Pitch 1.27mm, IPC High Density)
footprint DW24_M (SOIC, 24-Leads, Body 15.4x7.5mm, Pitch 1.27mm, IPC Low Density)
pins: 1 V+ (power) "Supply voltage for the buck output. The floating driver of the UC3827 uses the bootstrap technique which requires a reservoir capacitor to store the required energy for the buck switch.A diode must be connected from VCC to (See Datasheet)", 2 BUCK (out) "Output of the buck PWM controller. The BUCK output is a floating driver, optimized for controlling thegate of an N-channel MOSFET. The peak sink and source currents are 1 A. VCC undervoltage faults disables BUCK to an off (See Datasheet)", 3 SRC (in) "The source connection for the floating buck switch. The voltage on the SRC pin can exceed VCC but must be lower than 90 V-VVCC. Also, during turn-off transients of the buck switch, the voltage at SRC can go to -2V.", 4 SS (in) "5Soft-start pin requires a capacitor to GND. During soft-start the output of the voltage error amplifier is clamped to the soft-start capacitor voltage which is slowly charged by an internal current source. In UVLO, SS is (See Datasheet)", 5 RAMP (in) "The RAMP voltage, after a 700 mV internal level shift, is fed to the noninverting input of the buck PWM comparator. A resistor to VIN and a capacitor to GND provide an input voltage feedforward signal for the buck controller (See Datasheet)", 6 CEAO (io) "Output of the current error amplifier and the inverting input of the PWM comparator of the buck converter.", 7 CSAO (io) "Output of the current sense amplifier and the noninverting input of the current limit comparator.When the signal level on this pin exceeds the 3V threshold of the current limit comparator,the buck gate drive pluse is (See Datasheet)", 8 CSA+ (in) "Non-inverting input of the current error amplifier.", 9 CSA- (in) "Inverting input of the current error amplifier.", 10 VEAO (out) "Output of the voltage error amplifier.", 11 GND (power) "Ground reference for all sensitive setup components not related to driving the outputs.They include all timing,voltage sense,current sense,and bypass components.", 12 CEA+ (in) "Non-inverting input of the current error amplifier.", 13 CEA- (in) "Inverting input of the current error amplifier.", 14 VEA+ (in) "Non-inverting input of the voltage error amplifier.", 15 REF (out) "The output of the +5V on board reference.Byaoss this pin with a capacitor to GND. The reference is off when the chip is in undervoltage lockout mode.", 16 VEA- (in) "Inverting input of the voltage error amplifier", 17 RT "A resistor to GND programs the charge current of the timing capacitor connected to CT. The charge current approximately equals that shown in equation. The charge current should be less than 500 uA to keep CT's discharge peak (See Datasheet)", 18 CT "Provides for the timing capacitor which is connected between CT and GND. The oscillator frequency is set by CT and a resistor RT.connected between pin RT and GND. The CT discharge current is approximately 40 x the bias (See Datasheet)", 19 SYNC (io) "A bidirectional pin for the oscillator., used to synchronize several chips to the fastest oscillator. Its input synchronization threshold is 1.4V.The SYNC voltage is 3.6 V when the oscillator capacitor,CT,is discharged.(See Datasheet)", 20 DELAY (in) "A resistor to GND programs the overlap time of the PUSH and PULL outputs of the UC3827-1 and the dead time of the PUSH and PULL outputs of the UC3827-2. The minimum value of the resistor, RDELAY, is 18 kohm. The delay or (See Datasheet)", 21 PGND (power) "Ground connection for the PUSH and PULL outputs. PGND must be connected to GND at a single point on the printed circuit board. This is imperative to prevent large, high frequency switching currents flowing through the ground (See Datasheet)", 22 PULL (out) "Ground referenced output to drive an N-channel MOSFET. The PULL and the PUSH outputs are driving the two switches of the push-pull converter with complementary signals at close to a 50% duty cycle.Any undervoltage faults (See Datasheet)", 23 VCC (power) "Voltage source connected to this pin supplies the power for the UC3827.It is recommended to bypass this pin to both GND and PGND ground connections with good quality high frequency capacitors.", 24 PUSH (out) "Ground referenced output to drive an N-channel MOSFET. The PULL and the PUSH outputs are driving the two switches of the push-pull converter with complementary signals at close to a 50% duty cycle.Any undervoltage faults (See Datasheet)"

## UC3827DW-1G4
designator U?
Buck Current / Voltage Fed Push - Pull PWM Controller with Current Control, 50 % Duty Cycle, 0 to +70 degC, 24-pin SOIC (DW), Green (RoHS & no Sb/Br); PartNumber: UC3827DW-1G4; Manufacturer: Texas Instruments; Duty Cycle(Max)(%): 50; Frequency(Max)(kHz): 450; Rating: Catalog; Regulated Outputs(#): 3; Topology: Buck, Full-Bridge, Push-Pull; DatasheetVersion: SLUS365D; PackageVersion: revG, Jan-2011; PackageReference: DW24; PackageDescription: 24-Pin Plastic Small Outline Integrated Circuit, 15.4 x 7.5 mm, Pitch 1.27 mm Pitch; Supplier 1: Digi-Key; Supplier Part Number 1: UC3827DW-1G4-ND; Supplier 2: Newark; Supplier Part Number 2: 67K8826; Supplier 3: Mouser; Supplier Part Number 3: 595-UC3827DW-1G4; Control Method: Current; Eco-Plan: Green (RoHS & no Sb/Br); SubFamily: PWM Controller; UVLO Thresholds On/Off(V): 9/8.4; Mounting Technology: Surface Mount; Code_JEDEC: MS-013AD; ComponentLink1Description: Datasheet; ComponentLink1URL: http://www.ti.com/general/docs/lit/getliterature.tsp?genericPartNumber=UC3827-1&fileType=pdf
footprint DW24_N (SOIC, 24-Leads, Body 15.4x7.5mm, Pitch 1.27mm, IPC Medium Density)
footprint DW24_L (SOIC, 24-Leads, Body 15.4x7.5mm, Pitch 1.27mm, IPC High Density)
footprint DW24_M (SOIC, 24-Leads, Body 15.4x7.5mm, Pitch 1.27mm, IPC Low Density)
pins: 1 V+ (power) "Supply voltage for the buck output. The floating driver of the UC3827 uses the bootstrap technique which requires a reservoir capacitor to store the required energy for the buck switch.A diode must be connected from VCC to (See Datasheet)", 2 BUCK (out) "Output of the buck PWM controller. The BUCK output is a floating driver, optimized for controlling thegate of an N-channel MOSFET. The peak sink and source currents are 1 A. VCC undervoltage faults disables BUCK to an off (See Datasheet)", 3 SRC (in) "The source connection for the floating buck switch. The voltage on the SRC pin can exceed VCC but must be lower than 90 V-VVCC. Also, during turn-off transients of the buck switch, the voltage at SRC can go to -2V.", 4 SS (in) "5Soft-start pin requires a capacitor to GND. During soft-start the output of the voltage error amplifier is clamped to the soft-start capacitor voltage which is slowly charged by an internal current source. In UVLO, SS is (See Datasheet)", 5 RAMP (in) "The RAMP voltage, after a 700 mV internal level shift, is fed to the noninverting input of the buck PWM comparator. A resistor to VIN and a capacitor to GND provide an input voltage feedforward signal for the buck controller (See Datasheet)", 6 CEAO (io) "Output of the current error amplifier and the inverting input of the PWM comparator of the buck converter.", 7 CSAO (io) "Output of the current sense amplifier and the noninverting input of the current limit comparator.When the signal level on this pin exceeds the 3V threshold of the current limit comparator,the buck gate drive pluse is (See Datasheet)", 8 CSA+ (in) "Non-inverting input of the current error amplifier.", 9 CSA- (in) "Inverting input of the current error amplifier.", 10 VEAO (out) "Output of the voltage error amplifier.", 11 GND (power) "Ground reference for all sensitive setup components not related to driving the outputs.They include all timing,voltage sense,current sense,and bypass components.", 12 CEA+ (in) "Non-inverting input of the current error amplifier.", 13 CEA- (in) "Inverting input of the current error amplifier.", 14 VEA+ (in) "Non-inverting input of the voltage error amplifier.", 15 REF (out) "The output of the +5V on board reference.Byaoss this pin with a capacitor to GND. The reference is off when the chip is in undervoltage lockout mode.", 16 VEA- (in) "Inverting input of the voltage error amplifier", 17 RT "A resistor to GND programs the charge current of the timing capacitor connected to CT. The charge current approximately equals that shown in equation. The charge current should be less than 500 uA to keep CT's discharge peak (See Datasheet)", 18 CT "Provides for the timing capacitor which is connected between CT and GND. The oscillator frequency is set by CT and a resistor RT.connected between pin RT and GND. The CT discharge current is approximately 40 x the bias (See Datasheet)", 19 SYNC (io) "A bidirectional pin for the oscillator., used to synchronize several chips to the fastest oscillator. Its input synchronization threshold is 1.4V.The SYNC voltage is 3.6 V when the oscillator capacitor,CT,is discharged.(See Datasheet)", 20 DELAY (in) "A resistor to GND programs the overlap time of the PUSH and PULL outputs of the UC3827-1 and the dead time of the PUSH and PULL outputs of the UC3827-2. The minimum value of the resistor, RDELAY, is 18 kohm. The delay or (See Datasheet)", 21 PGND (power) "Ground connection for the PUSH and PULL outputs. PGND must be connected to GND at a single point on the printed circuit board. This is imperative to prevent large, high frequency switching currents flowing through the ground (See Datasheet)", 22 PULL (out) "Ground referenced output to drive an N-channel MOSFET. The PULL and the PUSH outputs are driving the two switches of the push-pull converter with complementary signals at close to a 50% duty cycle.Any undervoltage faults (See Datasheet)", 23 VCC (power) "Voltage source connected to this pin supplies the power for the UC3827.It is recommended to bypass this pin to both GND and PGND ground connections with good quality high frequency capacitors.", 24 PUSH (out) "Ground referenced output to drive an N-channel MOSFET. The PULL and the PUSH outputs are driving the two switches of the push-pull converter with complementary signals at close to a 50% duty cycle.Any undervoltage faults (See Datasheet)"